# EAGLE library part LOGIC,RELAYDRIVER,OCTAL,SERIAL (library QuantumOptics)
Octal low side relay driver, SPI, such as Infineon TLE7232G.
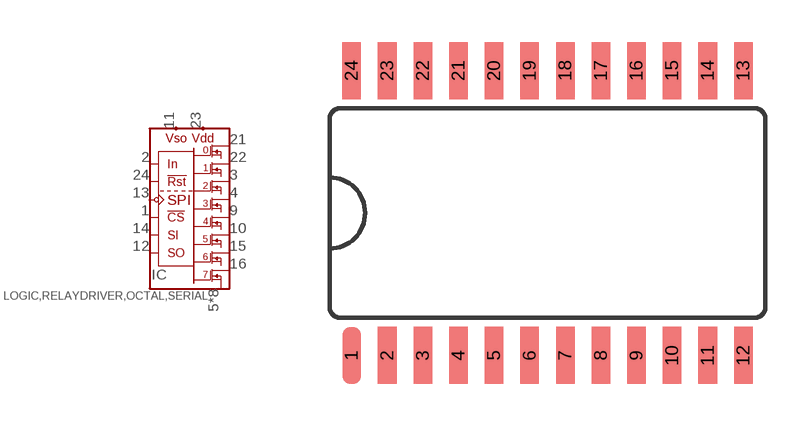
[diagram p170: symbol with the pads of SOIC-24-0.3; footprint SOIC-24-0.3]

Designator prefix IC

## LOGIC,RELAYDRIVER,OCTAL,SERIAL-SOIC24  [SOIC-24-0.3]
1  !CS  in
2  IN  in
3  Q2  out
4  Q3  out
5  COM
6  COM
7  COM
8  COM
9  Q4  out
10  Q5  out
11  VSO
12  SO  out
13  CLK  in
14  SI  in
15  Q6  out
16  Q7  out
17  COM
18  COM
19  COM
20  COM
21  Q0  out
22  Q1  out
23  VDD
24  !RST  in

## Footprint SOIC-24-0.3 (pad centres in mm)
SOIC-24 with 0.3"c-c rows and 0.05" pin spacing.
smd 0.66 x 2.032: 1 -6.35,-5.08; 2 -5.08,-5.08; 3 -3.81,-5.08; 4 -2.54,-5.08; 5 -1.27,-5.08; 6 0,-5.08; 7 1.27,-5.08; 8 2.54,-5.08; 9 3.81,-5.08; 10 5.08,-5.08; 11 6.35,-5.08; 12 7.62,-5.08; 13 7.62,5.08; 14 6.35,5.08; 15 5.08,5.08; 16 3.81,5.08; 17 2.54,5.08; 18 1.27,5.08; 19 0,5.08; 20 -1.27,5.08; 21 -2.54,5.08; 22 -3.81,5.08; 23 -5.08,5.08; 24 -6.35,5.08